# Altium footprint library MCT623S.PcbLib: 1 footprints
Each footprint in its own frame and in the unit in brackets; x right, y up, seen from the top. Pads: shape width x height; smd on the part's side, far side on the other; paste and mask are expansions set on the pad; w line width, h text height; cw(c..) or ccw(c..) is an arc to the next point about the centre after c.
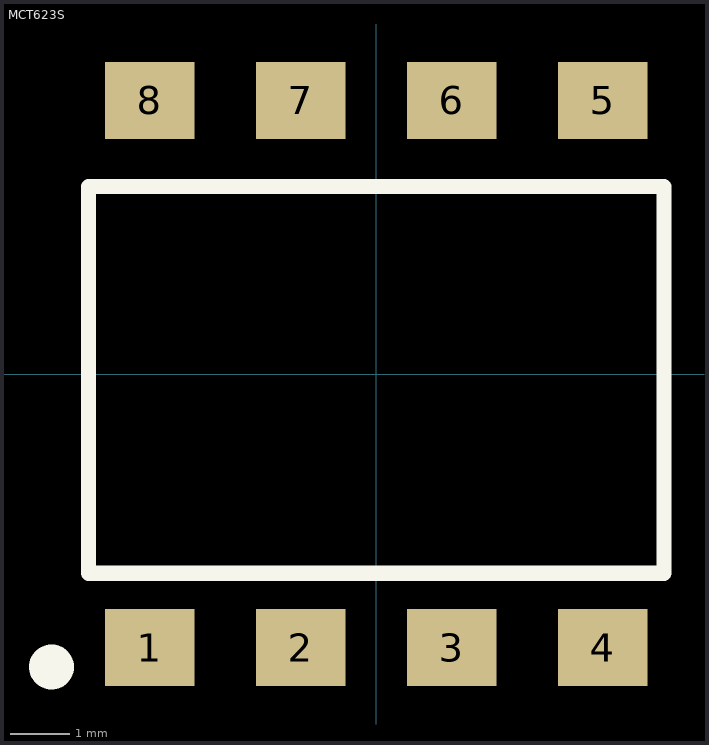
[diagram p0: the footprint, top view; thin cyan lines are the x and y axes]

## MCT623S [mm] "MCT623S"
pads (8):
  rect 1.5x1.3 smd: 1(-3.81,-4.6) 2(-1.27,-4.6) 3(1.27,-4.6) 4(3.81,-4.6) 5(3.81,4.6) 6(1.27,4.6) 7(-1.27,4.6) 8(-3.81,4.6)
Top Overlay:
  circle w0.5: c-5.461,-4.926 r0.127
  lines w0.254: -4.84,-3.35 4.84,-3.35 4.84,3.15 -4.84,3.15 -4.84,-3.35
3D body "MCT623S.STEP": height 5.08, standoff 0, extent -4.827,-5.15 4.828,5.15